# EAGLE library part FRDM-KL26Z (library Strutz Electronic Industries)
The symbol is for the FRDM-KL26Z the pin mappings for this device are wrong! ***DO NOT USE ON LAYOUT***
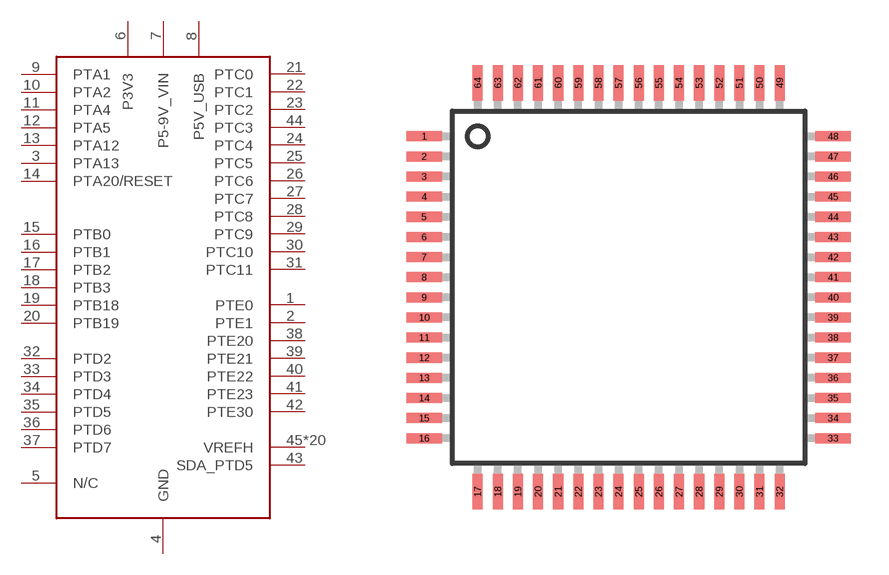
[diagram p44: symbol with the pads of QFP64; footprint QFP64]

Designator prefix -

## FRDM-KL26ZWRONG!  [QFP64]
1  PTE0
2  PTE1
3  PTA13
4  GND
5  N/C
6  P3V3
7  P5-9V_VIN
8  P5V_USB
9  PTA1
10  PTA2
11  PTA4
12  PTA5
13  PTA12
14  PTA20/RESET
15  PTB0
16  PTB1
17  PTB2
18  PTB3
19  PTB18
20  PTB19
21  PTC0
22  PTC1
23  PTC2
24  PTC4
25  PTC5
26  PTC6
27  PTC7
28  PTC8
29  PTC9
30  PTC10
31  PTC11
32  PTD2
33  PTD3
34  PTD4
35  PTD5
36  PTD6
37  PTD7
38  PTE20
39  PTE21
40  PTE22
41  PTE23
42  PTE30
43  SDA_PTD5
44  PTC3
45  VREFH
46  VREFH
47  VREFH
48  VREFH
49  VREFH
50  VREFH
51  VREFH
52  VREFH
53  VREFH
54  VREFH
55  VREFH
56  VREFH
57  VREFH
58  VREFH
59  VREFH
60  VREFH
61  VREFH
62  VREFH
63  VREFH
64  VREFH

## Footprint QFP64 (pad centres in mm)
smd 1.4 x 0.4: 1 -8.125,6; 2 -8.125,5.2; 3 -8.125,4.4; 4 -8.125,3.6; 5 -8.125,2.8; 6 -8.125,2; 7 -8.125,1.2; 8 -8.125,0.4; 9 -8.125,-0.4; 10 -8.125,-1.2; 11 -8.125,-2; 12 -8.125,-2.8; 13 -8.125,-3.6; 14 -8.125,-4.4; 15 -8.125,-5.2; 16 -8.125,-6; 33 8.125,-6; 34 8.125,-5.2; 35 8.125,-4.4; 36 8.125,-3.6; 37 8.125,-2.8; 38 8.125,-2; 39 8.125,-1.2; 40 8.125,-0.4; 41 8.125,0.4; 42 8.125,1.2; 43 8.125,2; 44 8.125,2.8; 45 8.125,3.6; 46 8.125,4.4; 47 8.125,5.2; 48 8.125,6
smd 0.4 x 1.4: 17 -6,-8.125; 18 -5.2,-8.125; 19 -4.4,-8.125; 20 -3.6,-8.125; 21 -2.8,-8.125; 22 -2,-8.125; 23 -1.2,-8.125; 24 -0.4,-8.125; 25 0.4,-8.125; 26 1.2,-8.125; 27 2,-8.125; 28 2.8,-8.125; 29 3.6,-8.125; 30 4.4,-8.125; 31 5.2,-8.125; 32 6,-8.125; 49 6,8.125; 50 5.2,8.125; 51 4.4,8.125; 52 3.6,8.125; 53 2.8,8.125; 54 2,8.125; 55 1.2,8.125; 56 0.4,8.125; 57 -0.4,8.125; 58 -1.2,8.125; 59 -2,8.125; 60 -2.8,8.125; 61 -3.6,8.125; 62 -4.4,8.125; 63 -5.2,8.125; 64 -6,8.125